# EAGLE library part LMZ21701 (library JL)
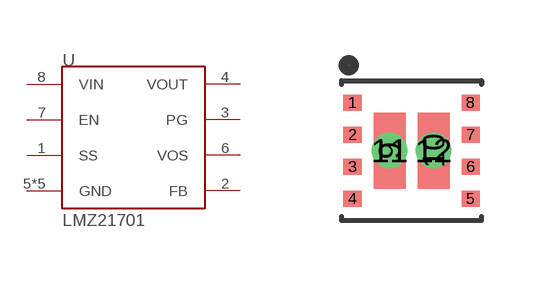
[diagram p5: symbol with the pads of SIL0008E; footprint SIL0008E]

Designator prefix -

## LMZ21701  [SIL0008E]
1  SS
2  FB
3  PG
4  VOUT
5  GND
6  VOS
7  EN
8  VIN
9  GND
10  GND
11  GND
12  GND

## Footprint SIL0008E (pad centres in mm)
smd 0.45 x 0.4: 1 -1.475,1.2; 2 -1.475,0.4; 3 -1.475,-0.4; 4 -1.475,-1.2; 5 1.475,-1.2; 6 1.475,-0.4; 7 1.475,0.4; 8 1.475,1.2
smd 0.8 x 1.9: 9 -0.55,0; 10 0.55,0
drill 0.381 pad 0.61: 11 -0.55,0; 12 0.55,0